# Altium schematic symbol library sch_passive_capacitor.SchLib: 1 symbol
Pins are listed as number, name and electrical type; pins without a type are passive.

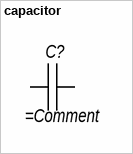
[diagram p0: symbol capacitor]

## capacitor
designator C?
pins: 1 (power), 2 (power)